# Altium footprint library CON_Omega2_TH.PcbLib: 1 footprints
Each footprint in its own frame and in the unit in brackets; x right, y up, seen from the top. Pads: shape width x height; smd on the part's side, far side on the other; paste and mask are expansions set on the pad; w line width, h text height; cw(c..) or ccw(c..) is an arc to the next point about the centre after c.
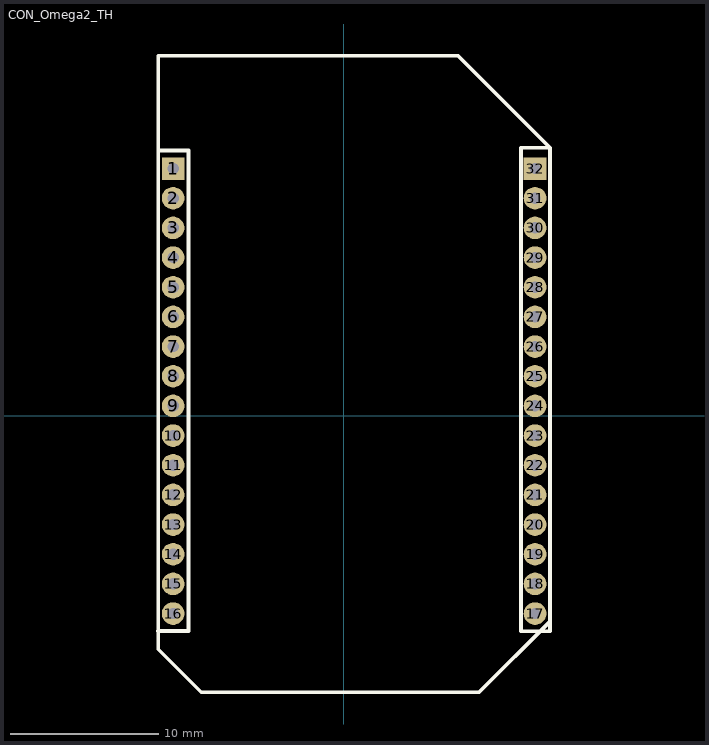
[diagram p0: the footprint, top view; thin cyan lines are the x and y axes]

## CON_Omega2_TH [mil]
height 6
pads (32):
  rect 60x60 hole 30: 1(-452.76,655.51) 32(507.87,655.51)
  round 60 hole 30: 2(-452.76,576.77) 3(-452.76,498.03) 4(-452.76,419.29) 5(-452.76,340.55) 6(-452.76,261.81) 7(-452.76,183.07) 8(-452.76,104.33) 9(-452.76,25.59) 10(-452.76,-53.15) 11(-452.76,-131.89) 12(-452.76,-210.63) 13(-452.76,-289.37) 14(-452.76,-368.11) 15(-452.76,-446.85) 16(-452.76,-525.59) 17(507.87,-525.59) 18(507.87,-446.85) 19(507.87,-368.11) 20(507.87,-289.37) 21(507.87,-210.63) 22(507.87,-131.89) 23(507.87,-53.15) 24(507.87,25.59) 25(507.87,104.33) 26(507.87,183.07) 27(507.87,261.81) 28(507.87,340.55) 29(507.87,419.29) 30(507.87,498.03) 31(507.87,576.77)
Top Overlay:
  lines w10: -492.52,-571.65 -412.2,-571.65 -412.2,703.54 -490.94,703.54 ; 547.24,710.63 547.24,-571.65 546.46,-572.44 470.47,-572.44 470.47,710.63 547.24,710.63 ; 547.24,710.63 547.24,-546.26 359.25,-734.25 -377.95,-734.25 -492.13,-620.08 -492.13,954.72 303.15,954.72 547.24,710.63
3D body "MMS-116-01-F-SV.stp": height 175, standoff -115, extent -492.1,-575.33 -413.4,705.87
3D body "MMS-116-01-F-SV.stp": height 175, standoff -115, extent 468.53,-575.33 547.23,705.87